# Altium schematic symbol library BRT_Components.SchLib: 270 symbols (part 1 of 3)
Pins are listed as number, name and electrical type; pins without a type are passive.

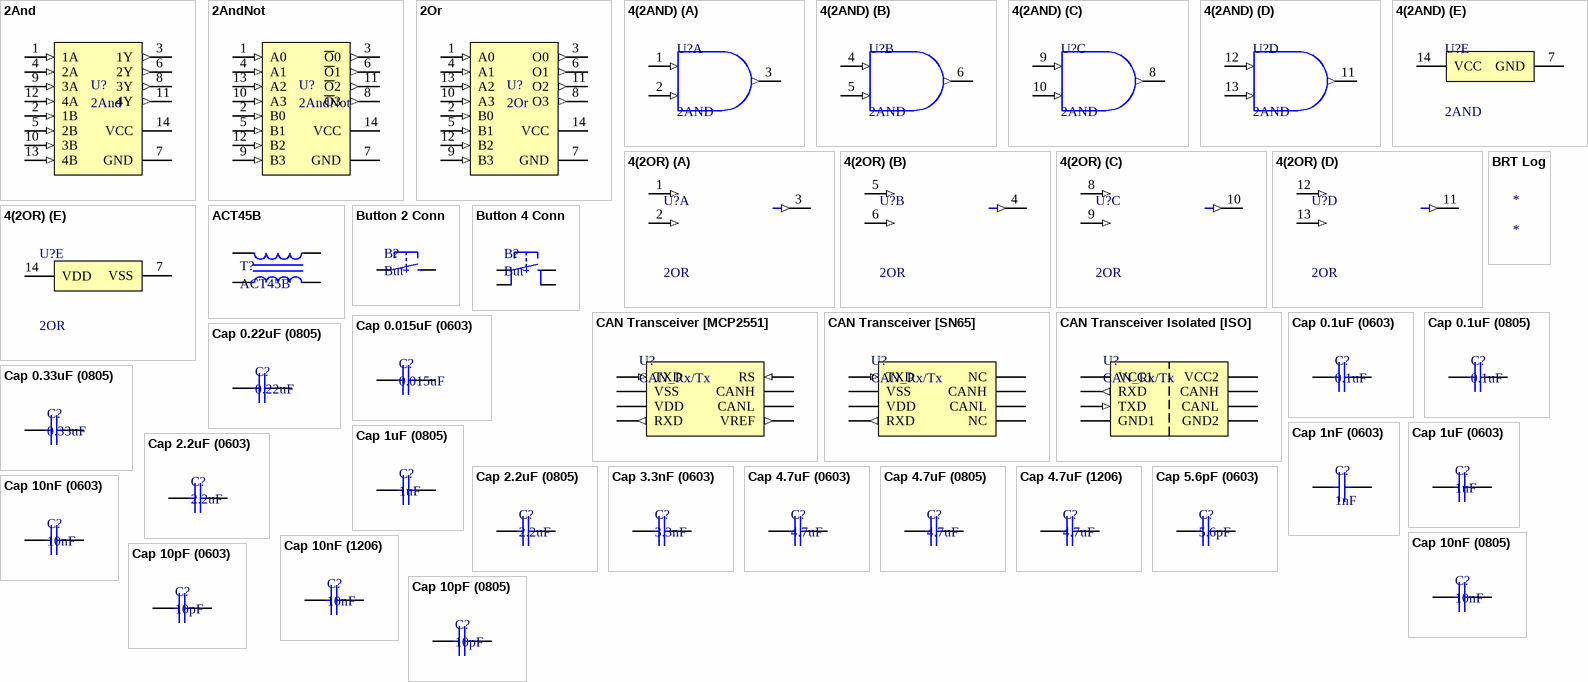
[diagram p0: symbols 2And to Cap 10pF (0805)]

## 2And
designator U?
4 logic elements "2AND"; Part Number: SN74AC08DR; Manufacturer: Texas Instruments; ComponentLink1Description: DataSheet; ComponentLink1URL: https://static.chipdip.ru/lib/551/DOC001551527.pdf; ComponentLink2Description: Chip&Dip; ComponentLink2URL: https://www.chipdip.ru/product/sn74ac08dr; Type: IC
footprint SOIC-14
pins: 1 1A (in), 2 1B (in), 3 1Y (out), 4 2A (in), 5 2B (in), 6 2Y (out), 7 GND (power), 8 3Y (out), 9 3A (in), 10 3B (in), 11 4Y (out), 12 4A (in), 13 4B (in), 14 VCC (power)

## 2AndNot
designator U?
4 logic elements "2NAND"; Part Number: 74AC00SC; Manufacturer: Fairchild Semiconductor; ComponentLink1Description: DataSheet; ComponentLink1URL: https://static.chipdip.ru/lib/551/DOC001551527.pdf; ComponentLink2Description: ChipDip; ComponentLink2URL: https://www.chipdip.ru/product/74ac00sc; Type: IC
footprint SOIC-14
pins: 1 A0 (in), 2 B0 (in), 3 ~{O}0 (out), 4 A1 (in), 5 B1 (in), 6 ~{O}1 (out), 7 GND (power), 8 ~{O}3 (out), 9 B3 (in), 10 A3 (in), 11 ~{O}2 (out), 12 B2 (in), 13 A2 (in), 14 VCC (power)

## 2Or
designator U?
4 logic elements "2OR"; Part Number: 74AC32SC; Manufacturer: Fairchild Semiconductor; ComponentLink1Description: DataSheet; ComponentLink1URL: http://www.farnell.com/datasheets/2287666.pdf; ComponentLink2Description: Chip&Dip; ComponentLink2URL: https://www.chipdip.ru/product/74ac32sc; Type: IC
footprint SOIC-14
pins: 1 A0 (in), 2 B0 (in), 3 O0 (out), 4 A1 (in), 5 B1 (in), 6 O1 (out), 7 GND, 8 O3 (out), 9 B3 (in), 10 A3 (in), 11 O2 (out), 12 B2 (in), 13 A2 (in), 14 VCC

## 4(2AND)
designator U?, comment 2AND
Quadruple 2-Input Positive-AND Gates, N0014A, TUBE; ComponentLink1Description: CHIPDIP; ComponentLink1URL: https://www.chipdip.ru/product/sn74als08n; ComponentLink2Description: Datasheet; ComponentLink2URL: https://static.chipdip.ru/lib/205/DOC000205515.pdf
footprint Dip14
part A pins: 1 1A (in), 2 1B (in), 3 1Y (out)
part B pins: 4 2A (in), 5 2B (in), 6 2Y (out)
part C pins: 8 3Y (out), 9 3A (in), 10 3B (in)
part D pins: 11 4Y (out), 12 4A (in), 13 4B (in)
part E pins: 7 GND (power), 14 VCC (power)

## 4(2OR)
designator U?, comment 2OR
CMOS Quad 2-Input OR Gate, N0014A, TUBE; ComponentLink1Description: CHIPDIP; ComponentLink1URL: https://www.chipdip.ru/product/cd4071be; ComponentLink2Description: DataSheet; ComponentLink2URL: https://static.chipdip.ru/lib/255/DOC000255480.pdf
footprint Dip14
part A pins: 1 A (in), 2 B (in), 3 J (out)
part B pins: 4 K (out), 5 C (in), 6 D (in)
part C pins: 8 E (in), 9 F (in), 10 L (out)
part D pins: 11 M (out), 12 G (in), 13 H (in)
part E pins: 7 VSS (power), 14 VDD (power)

## ACT45B
designator T?
Common mode filters / Automotive signal line (for power train/safety); Manufacturer: EMC Components; Part Number: ACT45B-510-2P-TL003; Type: Inductor; ComponentLink1Description: DataSheet; ComponentLink1URL: https://product.tdk.com/info/en/catalog/datasheets/cmf_automotive_signal_act45b_en.pdf
footprint ACT45B
pins: 1, 2, 3, 4

## BRT Log
designator *
footprint BRT_Log

## Button 2 Conn
designator B?, comment But
Button 2 Conn SMD; Part Number: L-KLS7-TS3608-5.0-180; Manufacturer: KLS electronic co ltd; Type: Button; ComponentLink1Description: Chip&Dip; ComponentLink1URL: https://www.chipdip.ru/product/kls7-ts3608-5.0-180-td-02xa
footprint BUTTON 4x3
pins: 1, 2

## Button 4 Conn
designator B?, comment But
Button 4 Conn SMD; Manufacturer: TE Connectivity; Part Number: 1571563-9; Type: Button; ComponentLink1Description: Chip&Dip; ComponentLink1URL: https://www.chipdip.ru/product/tyco-1571563-9-fsm8jsmatr
footprint Button 6x6
pins: 1, 2, 3, 4

## CAN Transceiver [MCP2551]
designator U?, comment CAN_Rx/Tx
High-speed  CAN,  fault-tolerantdevice  that  serves  as  the  interface  between  a  CANprotocol controller and the physical bus.; Part Number: MCP2551-I/SN; Manufacturer: Microchip; ComponentLink1Description: DataSheet; ComponentLink1URL: https://static.chipdip.ru/lib/204/DOC000204457.pdf; ComponentLink2Description: Chip&Dip; ComponentLink2URL: https://www.chipdip.ru/product/mcp2551-i-sn; Type: IC
footprint SOIC-8
pins: 1 TXD (in), 2 VSS (power), 3 VDD (power), 4 RXD (out), 5 VREF (out), 6 CANL (oc), 7 CANH (oc), 8 RS (in)

## CAN Transceiver [SN65]
designator U?, comment CAN_Rx/Tx
3.3V CAN Transceiver; Part Number: SN65HVD232D; Manufacturer: Texas Instruments; ComponentLink1Description: DataSheet; ComponentLink1URL: https://static.chipdip.ru/lib/204/DOC000204848.pdf; ComponentLink2Description: Chip&Dip; ComponentLink2URL: https://www.chipdip.ru/product/sn65hvd232d-2; Type: IC
footprint SOIC-8
pins: 1 TXD (in), 2 VSS (power), 3 VDD (power), 4 RXD (out), 5 NC, 6 CANL (oc), 7 CANH (oc), 8 NC

## CAN Transceiver Isolated [ISO]
designator U?, comment CAN_Rx/Tx
Galvanically isolated CAN transceiver that meets the specifications of  the ISO11898-2 standard; Part Number: ISO1050DUB; Manufacturer: Texas Instruments; ComponentLink1Description: DataSheet; ComponentLink1URL: https://static.chipdip.ru/lib/143/DOC004143969.pdf; ComponentLink2Description: Chip&Dip; ComponentLink2URL: https://www.chipdip.ru/product/iso1050dub; Type: IC
footprint dub-8
pins: 1 VCC1 (power), 2 RXD (out), 3 TXD (in), 4 GND1 (power), 5 GND2 (power), 6 CANL (oc), 7 CANH (oc), 8 VCC2 (power)

## Cap 0.1uF (0603)
designator C?, comment 0.1uF
0.1uF X7R 16V 10% 0603; Manufacturer: Murata Manufacturing; Part Number: GRM188R71C104KA01D; Type: Capacitor; ComponentLink1Description: Chip&Dip; ComponentLink1URL: https://www.chipdip.ru/product/grm188r71c104ka01d
footprint 0603 Capicator
pins: 1, 2

## Cap 0.1uF (0805)
designator C?, comment 0.1uF
0.1uF X7R 25V 10% 0805; Manufacturer: Murata Manufacturing; Part Number: GRM21BR71E104KA01L; Type: Capacitor; ComponentLink1Description: Chip&Dip; ComponentLink1URL: https://www.chipdip.ru/product/grm21br71e104ka01l
footprint 0805 Capicator
pins: 1, 2

## Cap 0.015uF (0603)
designator C?, comment 0.015uF
0.015uF X7R 50V 10% 0603; Manufacturer: Taiwan; Part Number: MLCC0.015uFX7R50V10%0603; Type: Capacitor; ComponentLink1Description: Chip&Dip; ComponentLink1URL: https://www.chipdip.ru/product0/895412441
footprint 0603 Capicator
pins: 1, 2

## Cap 0.22uF (0805)
designator C?, comment 0.22uF
0.22uF X7R 50V 10% 0805; Manufacturer: Murata Manufacturing; Part Number: GRM21BR71H224KA01L; Type: Capacitor; ComponentLink1Description: Chip&Dip; ComponentLink1URL: https://www.chipdip.ru/product/grm21br71h224k
footprint 0805 Capicator
pins: 1, 2

## Cap 0.33uF (0805)
designator C?, comment 0.33uF
0.33uF X7R 25V 10% 0805; Manufacturer: Murata Manufacturing; Part Number: GRM21BR71E334KA01L; Type: Capacitor; ComponentLink1Description: Chip&Dip; ComponentLink1URL: https://www.chipdip.ru/product/grm21br71e334k
footprint 0805 Capicator
pins: 1, 2

## Cap 1nF (0603)
designator C?, comment 1nF
X7R 1nF 100V 10% 0603; Manufacturer: Murata Manufacturing; Part Number: GRM188R72A102KA01D; Type: Capacitor; ComponentLink1Description: Chip&Dip; ComponentLink1URL: https://www.chipdip.ru/product/grm188r72a102ka01d
footprint 0603 Capicator
pins: 1, 2

## Cap 1uF (0603)
designator C?, comment 1uF
1uF X5R 25V 10% 0603; Manufacturer: Murata Manufacturing; Part Number: GRM188R61E105KAADD; Type: Capacitor; ComponentLink1Description: Chip&Dip; ComponentLink1URL: https://www.chipdip.ru/product/grm188r61e105k
footprint 0603 Capicator
pins: 1, 2

## Cap 1uF (0805)
designator C?, comment 1uF
1uF X7R 10% 16V 0805; Manufacturer: Murata Manufacturing; Part Number: GRM21BR71C105KA01K; Type: Capacitor; ComponentLink1Description: Chip&Dip; ComponentLink1URL: https://www.chipdip.ru/product/grm21br71c105k
footprint 0805 Capicator
pins: 1, 2

## Cap 2.2uF (0603)
designator C?, comment 2.2uF
2.2uF X5R 10V 10% 0603; Manufacturer: Murata Manufacturing; Part Number: GRM188R61A225KE34D; Type: Capacitor; ComponentLink1Description: Chip&Dip; ComponentLink1URL: https://www.chipdip.ru/product/grm188r61a225k
footprint 0603 Capicator
pins: 1, 2

## Cap 2.2uF (0805)
designator C?, comment 2.2uF
2.2uF X7R 25V 0805; Manufacturer: Murata Manufacturing; Part Number: GRM21BR71E225KA73L; Type: Capacitor; ComponentLink1Description: Chip&Dip; ComponentLink1URL: https://www.chipdip.ru/product/grm21br71e225k
footprint 0805 Capicator
pins: 1, 2

## Cap 3.3nF (0603)
designator C?, comment 3.3nF
X7R 3.3nF 100V 10% 0603; Manufacturer: Murata Manufacturing; Part Number: GRM188R72A332KA01D; Type: Capacitor; ComponentLink1Description: Chip&Dip; ComponentLink1URL: https://www.chipdip.ru/product/grm188r72a332ka01d
footprint 0603 Capicator
pins: 1, 2

## Cap 4.7uF (0603)
designator C?, comment 4.7uF
4.7uF X5R 25V 10% 0603; Manufacturer: Murata Manufacturing; Part Number: GRM188R61E475KE11D; Type: Capacitor; ComponentLink1Description: Chip&Dip; ComponentLink1URL: https://www.chipdip.ru/product0/9000348448
footprint 0603 Capicator
pins: 1, 2

## Cap 4.7uF (0805)
designator C?, comment 4.7uF
4.7uF X5R 10% 25V 0805; Manufacturer: Murata Manufacturing; Part Number: GRM21BR61E475KA12L; Type: Capacitor; ComponentLink1Description: Chip&Dip; ComponentLink1URL: https://www.chipdip.ru/product/grm21br61e475ka12l
footprint 0805 Capicator
pins: 1, 2

## Cap 4.7uF (1206)
designator C?, comment 4.7uF
4.7uF X7R 10% 50V 1206; Manufacturer: Murata Manufacturing; Part Number: GRM31CR71H475KA12L; Type: Capacitor; ComponentLink1Description: Chip&Dip; ComponentLink1URL: https://www.chipdip.ru/product/grm31cr71h475ka12l
footprint 1206 Capacitor
pins: 1, 2

## Cap 5.6pF (0603)
designator C?, comment 5.6pF
10pF NP0 50V 5% 0603; Manufacturer: Murata Manufacturing; Part Number: GRM1885C1H5R6CZ01D; Type: Capacitor; ComponentLink1Description: Chip&Dip; ComponentLink1URL: https://www.chipdip.ru/product/grm1885c1h5r6c
footprint 0603 Capicator
pins: 1, 2

## Cap 10nF (0603)
designator C?, comment 10nF
X7R 10nF 100V 10% 0603; Manufacturer: Murata Manufacturing; Part Number: GRM188R72A103KA01D; Type: Capacitor; ComponentLink1Description: Chip&Dip; ComponentLink1URL: https://www.chipdip.ru/product/grm188r72a103ka01d
footprint 0603 Capicator
pins: 1, 2

## Cap 10nF (0805)
designator C?, comment 10nF
0805 X7R 10nF 100V 10%; Manufacturer: Murata Manufacturing; Part Number: GRM21BR72A103KA01L; Type: Capacitor; ComponentLink1Description: Chip&Dip; ComponentLink1URL: https://www.chipdip.ru/product/grm21br72a103ka01l
footprint 0805 Capicator
pins: 1, 2

## Cap 10nF (1206)
designator C?, comment 10nF
10nF X7R 10% 50V 1206; Manufacturer: Murata Manufacturing; Part Number: GRM319R71H103KA01D; Type: Capacitor; ComponentLink1Description: Chip&Dip; ComponentLink1URL: https://www.chipdip.ru/product/grm319r71h103k
footprint 1206 Capacitor
pins: 1, 2

## Cap 10pF (0603)
designator C?, comment 10pF
10pF NP0 50V 5% 0603; Manufacturer: Murata Manufacturing; Part Number: GRM1885C1H100JA01D; Type: Capacitor; ComponentLink1Description: Chip&Dip; ComponentLink1URL: https://www.chipdip.ru/product/grm1885c1h100j
footprint 0603 Capicator
pins: 1, 2

## Cap 10pF (0805)
designator C?, comment 10pF
10pF NP0 50V 5% 0805; Manufacturer: Murata Manufacturing; Part Number: GRM2165C1H100JZ01D; Type: Capacitor; ComponentLink1Description: Chip&Dip; ComponentLink1URL: https://www.chipdip.ru/product/grm2165c1h100j
footprint 0805 Capicator
pins: 1, 2

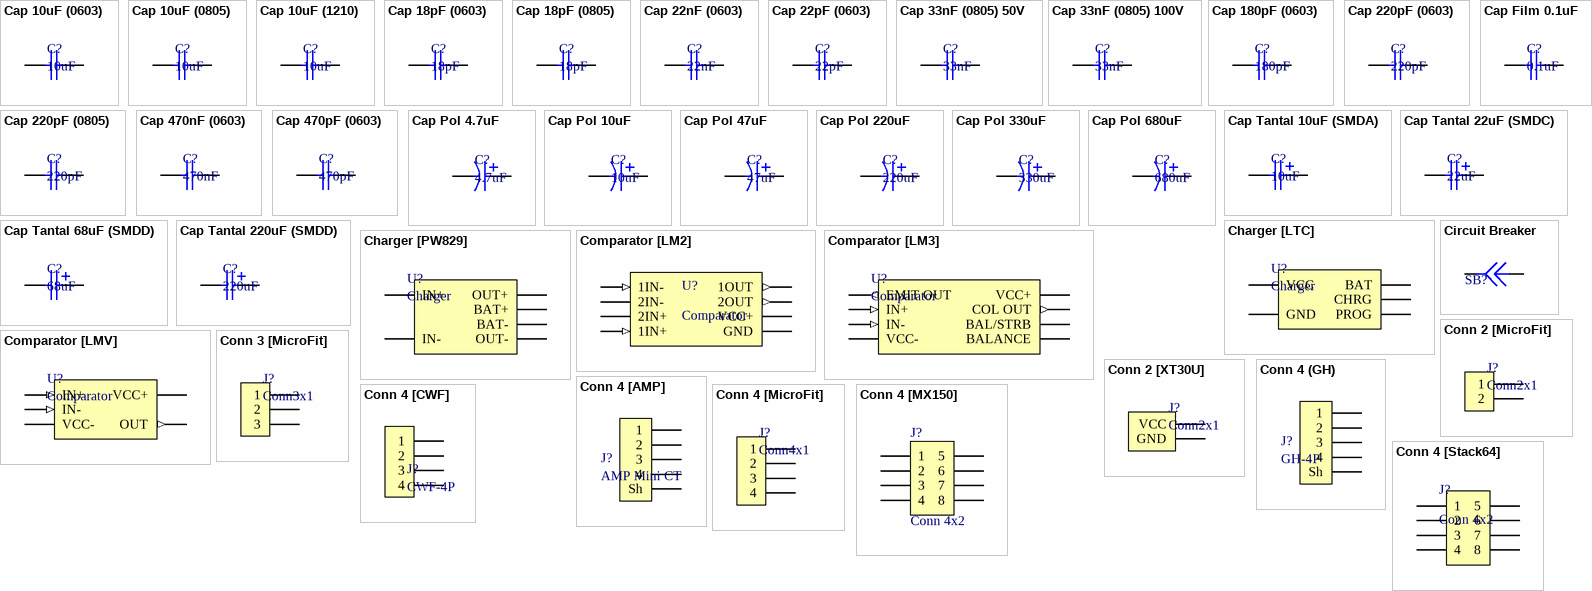
[diagram p1: symbols Cap 10uF (0603) to Conn 4 [Stack64]]

## Cap 10uF (0603)
designator C?, comment 10uF
10uF X5R 25V 20% 0603; Manufacturer: Murata Manufacturing; Part Number: GRM188R61E106M; Type: Capacitor; ComponentLink1Description: Chip&Dip; ComponentLink1URL: https://www.chipdip.ru/product/grm188r61e106m
footprint 0603 Capicator
pins: 1, 2

## Cap 10uF (0805)
designator C?, comment 10uF
10uF X5R 10% 16V 0805; Manufacturer: Murata Manufacturing; Part Number: GRM21BR61C106KE15L; Type: Capacitor; ComponentLink1Description: Chip&Dip; ComponentLink1URL: https://www.chipdip.ru/product/grm21br61c106ke15l
footprint 0805 Capicator
pins: 1, 2

## Cap 10uF (1210)
designator C?, comment 10uF
10uF X7R 10% 50V 1210; Manufacturer: Murata Manufacturing; Part Number: GRM32ER71H106KA12; Type: Capacitor; ComponentLink1Description: Chip&Dip; ComponentLink1URL: https://www.chipdip.ru/product/grm32er71h106k
footprint 1210 CAPACITOR
pins: 1, 2

## Cap 18pF (0603)
designator C?, comment 18pF
18pF NP0 50V 5% 0603; Manufacturer: Murata Manufacturing; Part Number: GRM1885C1H180JA01D; Type: Capacitor; ComponentLink1Description: Chip&Dip; ComponentLink1URL: https://www.chipdip.ru/product/grm1885c1h180j
footprint 0603 Capicator
pins: 1, 2

## Cap 18pF (0805)
designator C?, comment 18pF
18pF NP0 50V 5% 0805; Manufacturer: Murata Manufacturing; Part Number: GRM2165C1H180JD01D; Type: Capacitor; ComponentLink1Description: Chip&Dip; ComponentLink1URL: https://www.chipdip.ru/product/grm2165c1h180j
footprint 0805 Capicator
pins: 1, 2

## Cap 22nF (0603)
designator C?, comment 22nF
22nF X7R 50V 10% 0603; Manufacturer: Murata Manufacturing; Part Number: GRM188R71H223KA01D; Type: Capacitor; ComponentLink1Description: Chip&Dip; ComponentLink1URL: https://www.chipdip.ru/product/grm188r71h223k
footprint 0603 Capicator
pins: 1, 2

## Cap 22pF (0603)
designator C?, comment 22pF
22pF NP0 50V 5% 0603; Manufacturer: Taiwan; Part Number: MLCC22pFNPO50V5%0603; Type: Capacitor; ComponentLink1Description: Chip&Dip; ComponentLink1URL: https://www.chipdip.ru/product0/472852716
footprint 0603 Capicator
pins: 1, 2

## Cap 33nF (0805) 50V
designator C?, comment 33nF
0805 C0G 3.3нФ 50В 5%; Part Number: GRM21BR72A333KA01L; Manufacturer: Murata Manufacturing; Type: Capacitor; ComponentLink1Description: DataSheet; ComponentLink1URL: https://static.chipdip.ru/lib/250/DOC000250694.pdf; ComponentLink2Description: Chip&Dip; ComponentLink2URL: https://www.chipdip.ru/product/grm2165c1h332ja01d
footprint 0805 Capicator
pins: 1, 2

## Cap 33nF (0805) 100V
designator C?, comment 33nF
0805 X7R 33нФ 100В 10%; Part Number: GRM2165C1H332JA01D; Manufacturer: Murata Manufacturing; Type: Capacitor; ComponentLink1Description: DataSheet; ComponentLink1URL: https://static.chipdip.ru/lib/250/DOC000250694.pdf; ComponentLink2Description: Chip&Dip; ComponentLink2URL: https://www.chipdip.ru/product/grm21br72a333ka01l
footprint 0805 Capicator
pins: 1, 2

## Cap 180pF (0603)
designator C?, comment 180pF
180pF NP0 50V 5% 0603; Manufacturer: Murata Manufacturing; Part Number: GRM1885C1H181JA01D; Type: Capacitor; ComponentLink1Description: Chip&Dip; ComponentLink1URL: https://www.chipdip.ru/product/grm1885c1h181j
footprint 0603 Capicator
pins: 1, 2

## Cap 220pF (0603)
designator C?, comment 220pF
220pF NP0 50V 5% 0603; Manufacturer: Murata Manufacturing; Part Number: GRM1885C1H221J; Type: Capacitor; ComponentLink1Description: Chip&Dip; ComponentLink1URL: https://www.chipdip.ru/product/grm1885c1h221j
footprint 0603 Capicator
pins: 1, 2

## Cap 220pF (0805)
designator C?, comment 220pF
220pF NPO 5% 50V 0805; Manufacturer: Murata Manufacturing; Part Number: GRM2165C1H221JA01D; Type: Capacitor; ComponentLink1Description: Chip&Dip; ComponentLink1URL: https://www.chipdip.ru/product/grm2165c1h221j
footprint 0805 Capicator
pins: 1, 2

## Cap 470nF (0603)
designator C?, comment 470nF
470nF X7R 25V 10% 0603; Manufacturer: Murata Manufacturing; Part Number: GRM188R71E474KA12D; Type: Capacitor; ComponentLink1Description: Chip&Dip; ComponentLink1URL: https://www.chipdip.ru/product/grm188r71e474ka12d
footprint 0603 Capicator
pins: 1, 2

## Cap 470pF (0603)
designator C?, comment 470pF
470pF NP0 50V 5% 0603; Manufacturer: Taiwan; Part Number: MLCC470pFNPO50V5%0603; Type: Capacitor; ComponentLink1Description: Chip&Dip; ComponentLink1URL: https://www.chipdip.ru/product0/515359566
footprint 0603 Capicator
pins: 1, 2

## Cap Film 0.1uF
designator C?, comment 0.1uF
0.1uF 1000V 5%; Manufacturer: Epcos; Part Number: B32652A0104J000; Type: Capacitor; ComponentLink1Description: Chip&Dip; ComponentLink1URL: https://www.chipdip.ru/product/b32652a0104j000; ComponentLink2Description: DataSheet; ComponentLink2URL: https://static.chipdip.ru/lib/423/DOC004423752.pdf
footprint CAP Film 9x18 (DS1069-6 MR)
pins: 1, 2

## Cap Pol 4.7uF
designator C?, comment 4.7uF
ECAP SMD,  35V, 105°C; Part Number: B41121A7475M000; Manufacturer: Epcos; Type: Capacitor; ComponentLink1Description: Chip&Dip; ComponentLink1URL: https://www.chipdip.ru/product/b41121a7475m000
footprint Bar Cap 4x5.4
pins: 1, 2

## Cap Pol 10uF
designator C?, comment 10uF
ECAP SMD,  35V; Part Number: ECAPSMD10uF/35V; Manufacturer: China; Type: Capacitor; ComponentLink1Description: Chip&Dip; ComponentLink1URL: https://www.chipdip.ru/product0/884555856
footprint Bar Cap 5x5.4
pins: 1, 2

## Cap Pol 47uF
designator C?, comment 47uF
ECAP SMD,  25V, 105°C, 20%; Part Number: JCK1E470M063054; Manufacturer: JB; Type: Capacitor; ComponentLink1Description: Chip&Dip; ComponentLink1URL: https://www.chipdip.ru/product0/9000565730
footprint Bar Cap 6.3x7.7
pins: 1, 2

## Cap Pol 220uF
designator C?, comment 220uF
ECAP SMD,  10V, 105°C, 20%; Part Number: JCK1A221M063077; Manufacturer: JB; Type: Capacitor; ComponentLink1Description: Chip&Dip; ComponentLink1URL: https://www.chipdip.ru/product0/9000565740
footprint Bar Cap 6.3x7.7
pins: 1, 2

## Cap Pol 330uF
designator C?, comment 330uF
ECAP SMD,  16V, 105°C, 20%; Part Number: JCK1C331M080105; Manufacturer: JB; Type: Capacitor; ComponentLink1Description: Chip&Dip; ComponentLink1URL: https://www.chipdip.ru/product0/9000565746
footprint Bar Cap 8x10.5
pins: 1, 2

## Cap Pol 680uF
designator C?, comment 680uF
ECAP, 16V, 105°C, 20%, 8x16mm; Part Number: JRB1C681M03500800160000B; Manufacturer: JB; Type: Capacitor; ComponentLink1Description: Chip&Dip; ComponentLink1URL: https://www.chipdip.ru/product0/9000565740
footprint ECAP 8x16mm
pins: 1, 2

## Cap Tantal 10uF (SMDA)
designator C?, comment 10uF
TECAP, 10uF, 16V, case A, 10%; Part Number: 373033076; Manufacturer: China; Type: Capacitor; ComponentLink1Description: Chip&Dip; ComponentLink1URL: https://www.chipdip.ru/product0/373033076
footprint TANTAL_A_CASE
pins: 1, 2

## Cap Tantal 22uF (SMDC)
designator C?, comment 22uF
TECAP, 22uF, 16V, case C, 10%; Part Number: TECAP22/16VC10; Manufacturer: China; Type: Capacitor; ComponentLink1Description: Chip&Dip; ComponentLink1URL: https://www.chipdip.ru/product0/527359843
footprint TANTAL_C_CASE
pins: 1, 2

## Cap Tantal 68uF (SMDD)
designator C?, comment 68uF
TECAP, 68uF, 16V, case D, 10%; Part Number: TECAP68/16VD10; Manufacturer: China; Type: Capacitor; ComponentLink1Description: Chip&Dip; ComponentLink1URL: https://www.chipdip.ru/product0/979125339
footprint TANTAL_D_CASE
pins: 1, 2

## Cap Tantal 220uF (SMDD)
designator C?, comment 220uF
TECAP, 220uF, 10V, case D, 10%; Part Number: TECAP220/10VD10; Manufacturer: China; Type: Capacitor; ComponentLink1Description: Chip&Dip; ComponentLink1URL: https://www.chipdip.ru/product0/544389172
footprint TANTAL_D_CASE
pins: 1, 2

## Charger [LTC]
designator U?, comment Charger
The LTC®4054 is a complete constant-current/constant-voltage linear charger for single cell lithium-ion batteries.Its ThinSOT package and low external component countmake the LTC4054 ideally suited for portable applications.Furthermore, the LTC4054 is specifically designed to workwithin USB power specifications; Part Number: LTC4054ES5-4.2#PBF; Manufacturer: Linear Technology; ComponentLink2Description: Chip&Dip; ComponentLink2URL: https://www.chipdip.ru/product/ltc4054es5-4.2; Type: IC; ComponentLink3Description: DataSheet; ComponentLink3URL: https://static.chipdip.ru/lib/760/DOC000760847.pdf
footprint SOT-23-5
pins: 1 CHRG, 2 GND (power), 3 BAT (power), 4 VCC (power), 5 PROG

## Charger [PW829]
designator U?, comment Charger
Charger for Li-Ion; Part Number: PW829; Manufacturer: Master Kit; ComponentLink2Description: Chip&Dip; ComponentLink2URL: https://www.chipdip.ru/product0/8002091037; Type: IC
footprint PW829
pins: B+ BAT+ (power), B- BAT- (power), IN+ (power), IN- (power), OUT+ (power), OUT- (power)

## Circuit Breaker
designator SB?  (value not drawn)
footprint SB 0603 (Jumper)
pins: 1, 2

## Comparator [LM2]
designator U?, comment Comparator
These devices consist of two independent, high-gain designed to operate from a single supply or split (26 V for LM2904) supply over a wide range of voltages.; Manufacturer: Texas Instruments; Part Number: LM2904D; ComponentLink1Description: ChipDip; ComponentLink1URL: https://www.chipdip.ru/product/lm2904d-3; ComponentLink2Description: Datasheet; ComponentLink2URL: https://static.chipdip.ru/lib/551/DOC001551706.pdf; Type: IC
footprint SOIC-8
pins: 1 1OUT (out), 2 1IN- (in), 3 1IN+ (in), 4 GND (power), 5 2IN+ (oc), 6 2IN- (oc), 7 2OUT (out), 8 VCC+ (power)

## Comparator [LM3]
designator U?, comment Comparator
Differential comparator with strobes; Part Number: LM311DR; Manufacturer: Texas Instruments; ComponentLink1Description: DataSheet; ComponentLink1URL: https://static.chipdip.ru/lib/222/DOC000222396.pdf; ComponentLink2Description: Chip&Dip; ComponentLink2URL: https://www.chipdip.ru/product/lm311d; Type: IC
footprint SOIC-8
pins: 1 EMIT OUT (out), 2 IN+ (in), 3 IN- (in), 4 VCC- (power), 5 BALANCE (oc), 6 BAL/STRB (oc), 7 COL OUT (out), 8 VCC+ (power)

## Comparator [LMV]
designator U?, comment Comparator
LMV7219 7-ns 2.7-V to 5-V Comparator with Rail-to-Rail Output; Part Number: LMV7219M5X/NOPB; Manufacturer: Texas Instruments; ComponentLink1Description: DataSheet; ComponentLink1URL: http://www.ti.com/lit/ds/symlink/lmv7219.pdf; ComponentLink2Description: Mouser; ComponentLink2URL: https://ru.mouser.com/ProductDetail/Texas-Instruments/LMV7219M5X-NOPB?qs=sGAEpiMZZMuayl%2FEk2kXcbEcxwmoPguctVQUIBgrLJY%3D; Type: IC
footprint SOT-23-5
pins: 1 OUT (out), 2 VCC- (power), 3 IN+ (in), 4 IN- (in), 5 VCC+ (power)

## Conn 2 [MicroFit]
designator J?, comment Conn2x1
Micro-Fit 3.0 Right-Angle Header, 3.00mm Pitch, Single Row, 2 Circuits, with Snap-in Plastic Peg PCB Lock, Tin, Glow-Wire Capable, Black; Part Number: 436500200; Manufacturer: Molex; ComponentLink1Description: Molex; ComponentLink1URL: https://www.molex.com/molex/products/part-detail/pcb_headers/0436500200; Type: Connector
footprint MolexMicroFit 2x1
pins: 1, 2

## Conn 2 [XT30U]
designator J?, comment Conn2x1
Part Number: XT30U; Manufacturer: Amass; ComponentLink1Description: AliExpress; ComponentLink1URL: https://ru.aliexpress.com/item/4000070113352.html?spm=a2g0o.productlist.0.0.39dd34bfyYuspa&algo_pvid=4d7d83f5-6270-4220-b100-9b5f13b0846d&algo_expid=4d7d83f5-6270-4220-b100-9b5f13b0846d-3&btsid=c67bc929-e3be-4af3-9fd9-25ac13ce4818&ws_ab_test=searchweb0_0,searchweb201602_,searchweb201603_55; Type: Connector
footprint HEADER 2 XT30U
pins: 1 VCC, 2 GND

## Conn 3 [MicroFit]
designator J?, comment Conn3x1
Micro-Fit 3.0 Right-Angle Header, 3.00mm Pitch, Single Row, 3 Circuits, with Snap-in Plastic Peg PCB Lock, Tin, Glow-Wire Capable, Black; Part Number: 436500300; Manufacturer: Molex; ComponentLink1Description: Molex; ComponentLink1URL: https://www.molex.com/molex/products/part-detail/pcb_headers/0436500300; Type: Connector
footprint MolexMicroFit 3x1
pins: 1, 2, 3

## Conn 4 (GH)
designator J?, comment GH-4P
Connector Receptacle 4 Position 0.049" (1.25mm) Tin Surface Mount, Right Angle; Part Number: SM04B-GHS-TB; Manufacturer: JST Corporation; Type: Connector; ComponentLink1Description: Chip&Dip; ComponentLink1URL: https://www.chipdip.ru/product1/8002655893
footprint JST_GH-4P-RA
pins: 1, 2, 3, 4, A Sh

## Conn 4 [AMP]
designator J?, comment AMP Mini CT
PCB Mount Header, Right Angle,  Wire-to-Board; Part Number: 292227-4; Manufacturer: TE Connectivity; Type: Connector; ComponentLink1Description: TE Connectivity; ComponentLink1URL: https://www.te.com/usa-en/product-292227-4.html; ComponentLink2Description: Mouser; ComponentLink2URL: https://ru.mouser.com/ProductDetail/TE-Connectivity/5-292227-4?qs=sGAEpiMZZMvlX3nhDDO4AKROQBdNP11Lv8TEYXLdyMk%3D
footprint AMP Mini CT
pins: 1, 2, 3, 4, A Sh

## Conn 4 [CWF]
designator J?, comment CWF-4P
Right-Angle; Part Number: DS1069-4MRW6XB; Manufacturer: Ningbo connfly electronic (Zhenqin); Type: Connector; ComponentLink1Description: Chip&Dip; ComponentLink1URL: https://www.chipdip.ru/product/cwf-4r
footprint Conn4x1 (DS1069-6 MR)
pins: 1, 2, 3, 4

## Conn 4 [MicroFit]
designator J?, comment Conn4x1
Micro-Fit 3.0 Right-Angle Header, 3.00mm Pitch, Single Row, 4 Circuits, with Snap-in Plastic Peg PCB Lock, Tin, Glow-Wire Capable, Black; Part Number: 436500400; Manufacturer: Molex; ComponentLink1Description: Molex; ComponentLink1URL: https://www.molex.com/molex/products/part-detail/pcb_headers/0436500400; Type: Connector
footprint MolexMicroFit 4x1
pins: 1, 2, 3, 4

## Conn 4 [MX150]
designator J?, comment Conn 4x2
MX150 2x4 Dual Row Right-Angle Header, 8 Circuits, Keying Option A, Black, Solder Tail; Manufacturer: Molex Electronic Solutions; Part Number: 348300801; ComponentLink1Description: Molex; ComponentLink1URL: https://www.molex.com/molex/products/part-detail/pcb_headers/0348300801; Type: Connector
footprint Conn 4x2 (Molex MX150)
pins: 1, 2, 3, 4, 5, 6, 7, 8

## Conn 4 [Stack64]
designator J?, comment Conn 4x2
Stac64 Right-Angle Header Assembly, 8 Circuits, Polarization A, Black, Tray; Manufacturer: Molex Electronic Solutions; Part Number: 346910080; Type: Connector; ComponentLink1Description: Molex; ComponentLink1URL: https://www.molex.com/molex/products/part-detail/pcb_headers/0346910080
footprint Conn 4x2 (Molex)
pins: 1, 2, 3, 4, 5, 6, 7, 8

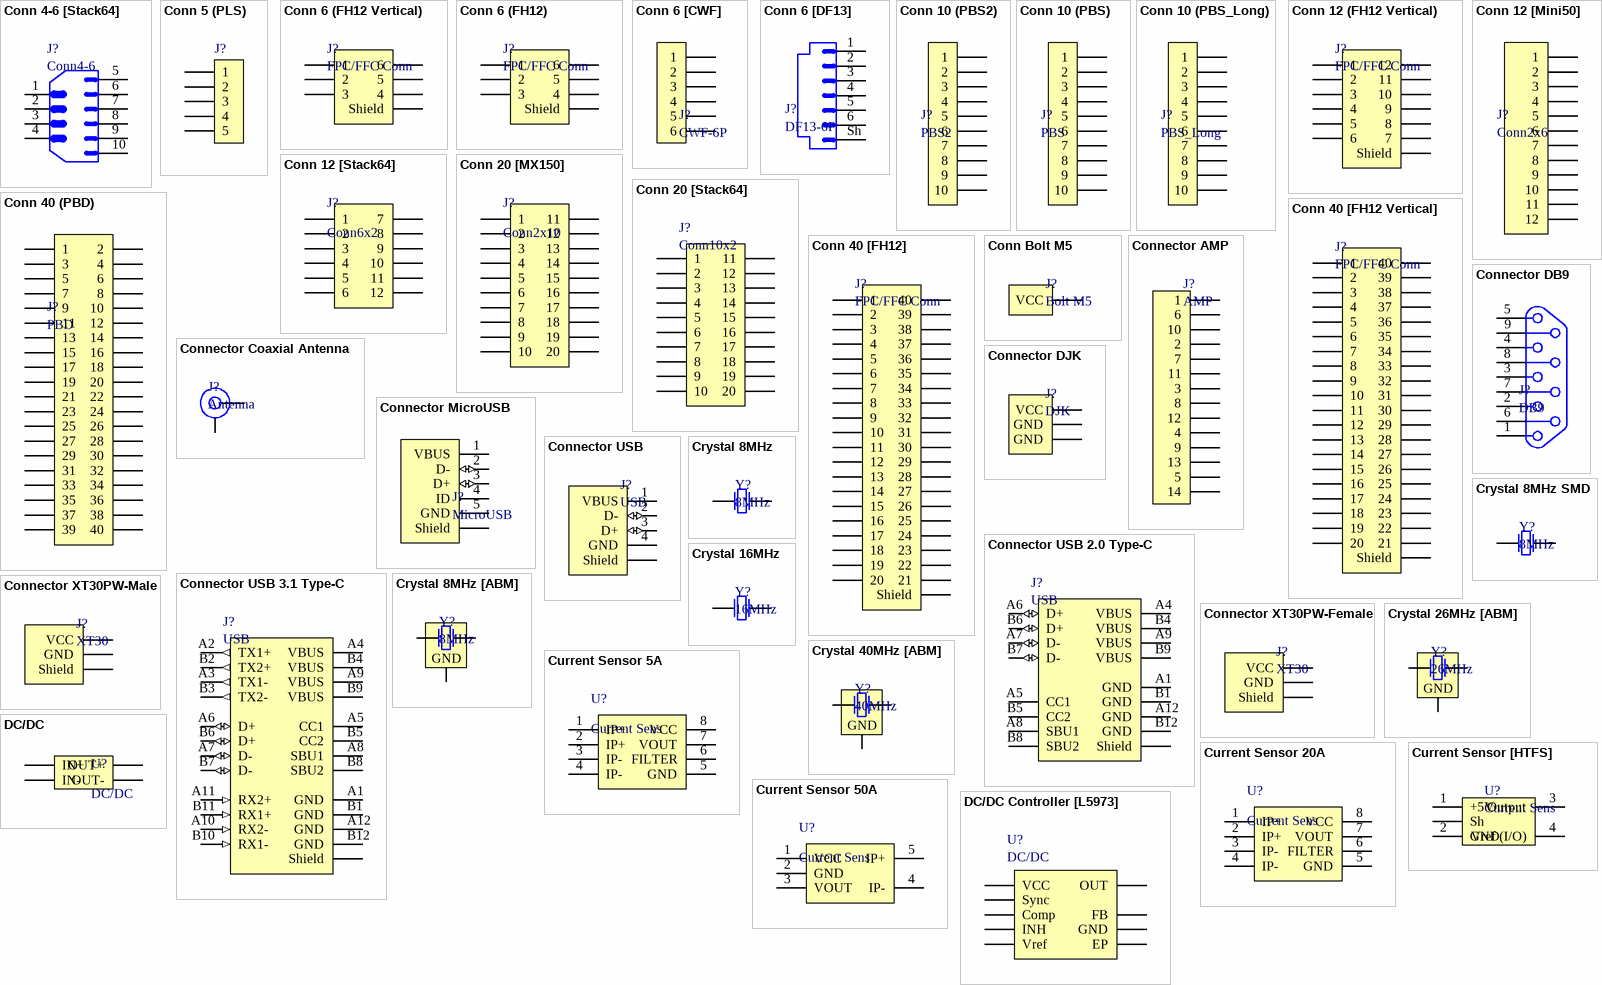
[diagram p2: symbols Conn 4-6 [Stack64] to DC/DC Controller [L5973]]

## Conn 4-6 [Stack64]
designator J?, comment Conn4-6
Stac64 Single Bay Right-Angle Power Header, 10 Circuits: 4x30A, 6x18A, Polarization A, Black, Tray; Manufacturer: Molex Electronic Solutions; Part Number: 346960100; Type: Connector; ComponentLink1Description: Molex; ComponentLink1URL: https://www.molex.com/molex/products/part-detail/pcb_headers/0346960100
footprint Conn4-6 (Molex)
pins: 1, 2, 3, 4, 5, 6, 7, 8, 9, 10

## Conn 5 (PLS)
designator J?
Header, 5-Pin; LatestRevisionDate: 17-Jul-2002; LatestRevisionNote: Re-released for DXP Platform.; Publisher: Altium Limited
footprint PLS 5x1 (Connector; Header; 5 Position)
pins: 1, 2, 3, 4, 5

## Conn 6 (FH12 Vertical)
designator J?, comment FPC/FFC Conn
Connector to touch sensor's trail; Part Number: FH12-6S-0.5SVA(54); Manufacturer: Hirose Electric; Type: Connector; ComponentLink1Description: Mouser; ComponentLink1URL: https://ru.mouser.com/ProductDetail/Hirose-Connector/FH12-6S-05SVA54?qs=%2Fha2pyFaduhYbZFVunKSgIpYMlkzngMoGcACEbztduQ1P2V6tcZCQQ%3D%3D
footprint FH12-6s Vertical
pins: 1, 2, 3, 4, 5, 6, A Shield

## Conn 6 (FH12)
designator J?, comment FPC/FFC Conn
Connector to touch sensor's trail; Part Number: FH12-6S-0.5SH(55); Manufacturer: Hirose Electric; Type: Connector; ComponentLink1Description: Chip&Dip; ComponentLink1URL: https://www.chipdip.ru/product1/8001997921
footprint FH12-6s
pins: 1, 2, 3, 4, 5, 6, A Shield

## Conn 6 [CWF]
designator J?, comment CWF-6P
Right-Angle; Manufacturer: Ningbo connfly electronic (Zhenqin); Part Number: DS1069-6MRW6X-B; Type: Connector; ComponentLink1Description: Chip&Dip; ComponentLink1URL: https://www.chipdip.ru/product/cwf-6r
footprint Conn6x1 (DS1069-6 MR)
pins: 1, 2, 3, 4, 5, 6

## Conn 6 [DF13]
designator J?, comment DF13-6P
[DF13-6P-1.25H]; Manufacturer: Hirose; Part Number: CL0536-0255-2-75; Type: Connector; ComponentLink1Description: Hirose; ComponentLink1URL: https://www.hirose.com/product/p/CL0536-0255-2-75?lang=ru
footprint DF13-6p-1.25H; pin to pad Sh>A
pins: 1, 2, 3, 4, 5, 6, Sh A

## Conn 10 (PBS2)
designator J?, comment PBS2
Female; Part Number: DS1026-01-1*10S8BV; Manufacturer: Ningbo connfly electronic; Type: Connector; ComponentLink1Description: Chip&Dip; ComponentLink1URL: https://www.chipdip.ru/product/pbs2-10
footprint PBS2 10
pins: 1, 2, 3, 4, 5, 6, 7, 8, 9, 10

## Conn 10 (PBS)
designator J?, comment PBS
Female; Part Number: DS1023-1*10S21; Manufacturer: Ningbo connfly electronic; Type: Connector; ComponentLink1Description: Chip&Dip; ComponentLink1URL: https://www.chipdip.ru/product/pbs-10
footprint PBS10
pins: 1, 2, 3, 4, 5, 6, 7, 8, 9, 10

## Conn 10 (PBS_Long)
designator J?, comment PBS_Long
Long Arguino Male & Female Pins; Part Number: DS1023-30-1*10SF11-N-084; Manufacturer: Ningbo connfly electronic; Type: Connector; ComponentLink1Description: Chip&Dip; ComponentLink1URL: https://www.chipdip.ru/product/ds1023-30-1x10-for-arduino
footprint PBS10 Arduino
pins: 1, 2, 3, 4, 5, 6, 7, 8, 9, 10

## Conn 12 (FH12 Vertical)
designator J?, comment FPC/FFC Conn
Connector to trail; Part Number: FH12-12S-0.5SVA(54); Manufacturer: Hirose Electric; Type: Connector; ComponentLink1Description: Mouser; ComponentLink1URL: https://ru.mouser.com/ProductDetail/Hirose-Connector/FH12-12S-05SVA54?qs=%2Fha2pyFadugx2rsdyHDVcXwbI8krQaq6%252BPNTW5YGSdYzC8JBsy5pU75ViyDjvRCP
footprint FH12-12S Vertical
pins: 1, 2, 3, 4, 5, 6, 7, 8, 9, 10, 11, 12, A Shield

## Conn 12 [Mini50]
designator J?, comment Conn2x6
Mini50 Unsealed Right-Angle Header, Dual Row, 12 Circuit, Polarization Option A,Black, Tray; Part Number: 348260124; Manufacturer: Molex; Type: Connector; ComponentLink1Description: Mouser; ComponentLink1URL: https://ru.mouser.com/ProductDetail/Molex/34826-0124?qs=sGAEpiMZZMs7eK6h2EBtKq%2FAicJUTTGjFIo7mj9gX0g%3D
footprint Conn2x6 (Molex)
pins: 1, 2, 3, 4, 5, 6, 7, 8, 9, 10, 11, 12

## Conn 12 [Stack64]
designator J?, comment Conn6x2
Stac64 Right-Angle Header Assembly, 12 Circuits, Polarization A, Black, Tray / Current - Maximum per Contact 10.0A / Voltage - Maximum 500V; ComponentLink1Description: Molex; ComponentLink1URL: https://www.molex.com/molex/products/part-detail/pcb_headers/0346910120; ComponentLink2Description: DataSheet; ComponentLink2URL: https://www.molex.com/webdocs/datasheets/pdf/en-us/0346910120_PCB_HEADERS.pdf
footprint Conn6x2(Molex)
pins: 1, 2, 3, 4, 5, 6, 7, 8, 9, 10, 11, 12

## Conn 20 [MX150]
designator J?, comment Conn2x10
Dual Row Right-Angle Header, 20 Circuits, Keying Option C, Dark Gray, Solder Tail; Part Number: 348302003; Manufacturer: Molex; ComponentLink2Description: Datasheet; ComponentLink2URL: https://www.molex.com/pdm_docs/as/AS-34829-001-001.pdf; Type: Connector
footprint Conn2x10 (Molex)
pins: 1, 2, 3, 4, 5, 6, 7, 8, 9, 10, 11, 12, 13, 14, 15, 16, 17, 18, 19, 20

## Conn 20 [Stack64]
designator J?, comment Conn10x2
Stac64 Right-Angle Header Assembly, 20 Circuits x 10A, Polarization A, Black, Tray; Manufacturer: Molex Electronic Solutions; Part Number: 346910200; Type: Connector; ComponentLink1Description: Molex; ComponentLink1URL: https://www.molex.com/molex/products/part-detail/pcb_headers/0346910200
footprint Conn10x2 (Molex)
pins: 1, 2, 3, 4, 5, 6, 7, 8, 9, 10, 11, 12, 13, 14, 15, 16, 17, 18, 19, 20

## Conn 40 (PBD)
designator J?, comment PBD
Female for PLD; Part Number: DS1023-2*20S21; Manufacturer: Ningbo connfly electronic; Type: Connector; ComponentLink1Description: Chip&Dip; ComponentLink1URL: https://www.chipdip.ru/product/pbd-40
footprint PBD 2x20
pins: 1, 2, 3, 4, 5, 6, 7, 8, 9, 10, 11, 12, 13, 14, 15, 16, 17, 18, 19, 20, 21, 22, 23, 24, 25, 26, 27, 28, 29, 30, 31, 32, 33, 34, 35, 36, 37, 38, 39, 40

## Conn 40 [FH12 Vertical]
designator J?, comment FPC/FFC Conn
Connector to Display's trail.; Part Number: FH12-40S-0.5SVA(54); Manufacturer: Hirose Electric; Type: Connector; ComponentLink1Description: Chip&Dip; ComponentLink1URL: https://www.chipdip.ru/product1/8002082143
footprint FH12-40S Vertical
pins: 1, 2, 3, 4, 5, 6, 7, 8, 9, 10, 11, 12, 13, 14, 15, 16, 17, 18, 19, 20, 21, 22, 23, 24, 25, 26, 27, 28, 29, 30, 31, 32, 33, 34, 35, 36, 37, 38, 39, 40, A Shield

## Conn 40 [FH12]
designator J?, comment FPC/FFC Conn
Connector to Display's trail; Part Number: FH12-40S-0.5SH[55]; Manufacturer: Hirose Electric; Type: Connector; ComponentLink1Description: Chip&Dip; ComponentLink1URL: https://www.chipdip.ru/product1/8001997919
footprint FH12-40S
pins: 1, 2, 3, 4, 5, 6, 7, 8, 9, 10, 11, 12, 13, 14, 15, 16, 17, 18, 19, 20, 21, 22, 23, 24, 25, 26, 27, 28, 29, 30, 31, 32, 33, 34, 35, 36, 37, 38, 39, 40, A Shield

## Conn Bolt M5
designator J?, comment Bolt M5
Bolt M5 high corrent connector; Type: Connetctor; Manufacturer: *; Part Number: *; ComponentLink1Description: Chip&Dip; ComponentLink1URL: *; ComponentLink2Description: Datasheet; ComponentLink2URL: *
footprint Bolt M5
pins: 1 VCC

## Connector AMP
designator J?, comment AMP
AMP Connector; Part Number: 776266-1; Manufacturer: TE Connectivity; Type: Connector
footprint AMP 776266-1
pins: 1, 2, 3, 4, 5, 6, 7, 8, 9, 10, 11, 12, 13, 14

## Connector Coaxial Antenna
designator J?, comment Antenna
Part Number: IPX U. FL; Manufacturer: DIY BOX; ComponentLink1Description: AliExpress; ComponentLink1URL: https://aliexpress.ru/i/32666421757.html; Type: Connector
footprint IPX U. FL
pins: 1 Antenna, A GND

## Connector DB9
designator J?, comment DB9
CONN D-SUB PLUG 9POS R/A SOLDER; Part Number: DR09S-H-CN; Manufacturer: Auk Contractors; ComponentLink1Description: DataSheet; ComponentLink1URL: https://static.chipdip.ru/lib/009/DOC004009535.pdf; ComponentLink2Description: Chip&Dip; ComponentLink2URL: https://www.chipdip.ru/product/dr09s-h-cn-drb-9fa-dbr-9f; Type: Connector
footprint DB9
pins: 1, 2, 3, 4, 5, 6, 7, 8, 9

## Connector DJK
designator J?, comment DJK
DC 2.5x5.5mm; Part Number: DS-210A (PBT) (NB); Manufacturer: Dragon City Industries; ComponentLink1Description: Chip&Dip; ComponentLink1URL: https://www.chipdip.ru/product/ds-210a-djk-02b; Type: Connector
footprint DJK-02B
pins: 1 VCC (power), 2 GND, 3 GND

## Connector MicroUSB
designator J?, comment MicroUSB
Part Number: 473460001; Manufacturer: Molex; ComponentLink1Description: Chip&Dip; ComponentLink1URL: https://www.chipdip.ru/product/molex-47346-0001; Type: Connector
footprint MicroUSB 47346-0001
pins: 1 VBUS (power), 2 D- (io), 3 D+ (io), 4 ID, 5 GND (power), A Shield (power)

## Connector USB
designator J?, comment USB
Manufacturer: Ningbo connfly electronic; Part Number: DS1098-BN0; ComponentLink1Description: Chip&Dip; ComponentLink1URL: https://www.chipdip.ru/product/usb-asm-ds1098-b; ComponentLink2Description: DataSheet; ComponentLink2URL: https://static.chipdip.ru/lib/249/DOC000249309.pdf; Type: Connector
footprint USB
pins: 1 VBUS (power), 2 D- (io), 3 D+ (io), 4 GND (power), A Shield (power)

## Connector USB 2.0 Type-C
designator J?, comment USB
Manufacturer: Global Connector Technology; Part Number: USB4085-GF-A; ComponentLink1Description: Chip&Dip; ComponentLink1URL: https://www.chipdip.ru/product/usb4085-gf-a; Type: Connector; ComponentLink2Description: DataSheet; ComponentLink2URL: https://www.farnell.com/cad/2648880.pdf
footprint USB Type-C
pins: A Shield (power), A1 GND (power), A4 VBUS (power), A5 CC1, A6 D+ (io), A7 D- (io), A8 SBU1, A9 VBUS (power), A12 GND (power), B1 GND (power), B4 VBUS (power), B5 CC2, B6 D+ (io), B7 D- (io), B8 SBU2, B9 VBUS (power), B12 GND (power)

## Connector USB 3.1 Type-C
designator J?, comment USB
Manufacturer: Pulse Engineering; Part Number: E8124-010-01; ComponentLink1Description: Chip&Dip; ComponentLink1URL: https://www.chipdip.ru/product1/8002225623; Type: Connector
pins: 5 Shield (power), A1 GND (power), A2 TX1+ (out), A3 TX1- (out), A4 VBUS (power), A5 CC1, A6 D+ (io), A7 D- (io), A8 SBU1, A9 VBUS (power), A10 RX2- (in), A11 RX2+ (in), A12 GND (power), B1 GND (power), B2 TX2+ (out), B3 TX2- (out), B4 VBUS (power), B5 CC2, B6 D+ (io), B7 D- (io), B8 SBU2, B9 VBUS (power), B10 RX1- (in), B11 RX1+ (in), B12 GND (power)

## Connector XT30PW-Female
designator J?, comment XT30
Part Number: XT30PW; Manufacturer: Amass; ComponentLink1Description: AliExpress; ComponentLink1URL: https://ru.aliexpress.com/item/4000070113352.html?spm=a2g0o.productlist.0.0.39dd34bfyYuspa&algo_pvid=4d7d83f5-6270-4220-b100-9b5f13b0846d&algo_expid=4d7d83f5-6270-4220-b100-9b5f13b0846d-3&btsid=c67bc929-e3be-4af3-9fd9-25ac13ce4818&ws_ab_test=searchweb0_0,searchweb201602_,searchweb201603_55; Type: Connector
footprint HEADER 2 XT30PW FeMale
pins: 1 GND, 2 VCC, A Shield

## Connector XT30PW-Male
designator J?, comment XT30
Part Number: XT30PW; Manufacturer: Amass; ComponentLink1Description: AliExpress; ComponentLink1URL: https://ru.aliexpress.com/item/4000070113352.html?spm=a2g0o.productlist.0.0.39dd34bfyYuspa&algo_pvid=4d7d83f5-6270-4220-b100-9b5f13b0846d&algo_expid=4d7d83f5-6270-4220-b100-9b5f13b0846d-3&btsid=c67bc929-e3be-4af3-9fd9-25ac13ce4818&ws_ab_test=searchweb0_0,searchweb201602_,searchweb201603_55; Type: Connector
footprint HEADER 2 XT30PW Male
pins: 1 VCC, 2 GND, A Shield

## Crystal 8MHz
designator Y?, comment 8MHz
Crystal. HC-49S (US); Manufacturer: China; Part Number: 8.000MHzHC-49US; Type: Crystal; ComponentLink1Description: Chip&Dip; ComponentLink1URL: https://www.chipdip.ru/product/8mhz-hc-49s
footprint R38 (Crystal)
pins: 1, 2

## Crystal 8MHz [ABM]
designator Y?, comment 8MHz
8.0MHz 10pf 10ppm -10C +60C; Manufacturer: ABRACON; Part Number: ABM3B-8.000MHZ-10-1UT; Type: Crystal; ComponentLink1Description: Mouser; ComponentLink1URL: https://ru.mouser.com/ProductDetail/ABRACON/ABM3B-8000MHZ-10-1UT?qs=sGAEpiMZZMsBj6bBr9Q9aQYUWCbsL2Wc65je5Ut7byg%3D; ComponentLink2Description: DataSheet; ComponentLink2URL: https://ru.mouser.com/datasheet/2/3/abm3b-39910.pdf
footprint Crystal ABM
pins: 1, 2, GND

## Crystal 8MHz SMD
designator Y?, comment 8MHz
Crystal. HC-49SM (US); Manufacturer: China; Part Number: 8.000MHzHC-49SM; Type: Crystal; ComponentLink1Description: Chip&Dip; ComponentLink1URL: https://www.chipdip.ru/product/8mhz-hc-49sm
footprint hc-49sm
pins: 1, 2

## Crystal 16MHz
designator Y?, comment 16MHz
Crystal. HC-49S (US); Manufacturer: China; Part Number: 16.000MHzHC-49US; Type: Crystal; ComponentLink1Description: Chip&Dip; ComponentLink1URL: https://www.chipdip.ru/product/16mhz-hc-49s
footprint R38 (Crystal)
pins: 1, 2

## Crystal 26MHz [ABM]
designator Y?, comment 26MHz
26.0MHz 10pf 10ppm -10C +60C; Manufacturer: ABRACON; Part Number: ABM3B-26.000MHZ-10-1-U-T; Type: Crystal; ComponentLink1Description: Mouser; ComponentLink1URL: https://ru.mouser.com/ProductDetail/ABRACON/ABM3B-26000MHZ-10-1-U-T?qs=sGAEpiMZZMsBj6bBr9Q9aYIb7x83P10s%2FVqDaCBbZQI%3D; ComponentLink2Description: DataSheet; ComponentLink2URL: https://ru.mouser.com/datasheet/2/3/abm3b-1774998.pdf
footprint Crystal ABM
pins: 1, 2, GND

## Crystal 40MHz [ABM]
designator Y?, comment 40MHz
40.0MHz 10pf 10ppm -10C +60C; Manufacturer: ABRACON; Part Number: ABM3B-40.000MHZ-10-1-U-T; Type: Crystal; ComponentLink1Description: Mouser; ComponentLink1URL: https://ru.mouser.com/ProductDetail/ABRACON/ABM3B-40000MHZ-10-1-U-T?qs=sGAEpiMZZMsBj6bBr9Q9acVJ3l36SOAPS6GFViLdkvE%3D; ComponentLink2Description: DataSheet; ComponentLink2URL: https://ru.mouser.com/datasheet/2/3/abm3b-1774998.pdf
footprint Crystal ABM
pins: 1, 2, GND

## Current Sensor 5A
designator U?, comment Current Sens
Hall current sensor, 5A, VIN upto 8V; Manufacturer: Allegro MicroSystems; Part Number: ACS712ELCTR-05B-T; Type: IC; ComponentLink1Description: ChipDip; ComponentLink1URL: https://www.chipdip.ru/product/acs712elctr-05b-t; ComponentLink2Description: Datasheet; ComponentLink2URL: https://static.chipdip.ru/lib/242/DOC000242949.pdf
footprint SOIC-8
pins: 1 IP+, 2 IP+, 3 IP-, 4 IP-, 5 GND, 6 FILTER, 7 VOUT, 8 VCC

## Current Sensor 20A
designator U?, comment Current Sens
Hall current sensor, 20A, VIN upto 8V; Manufacturer: Allegro MicroSystems; Part Number: ACS712ELCTR-20A-T; Type: IC; ComponentLink1Description: Chip&Dip; ComponentLink1URL: https://www.chipdip.ru/product/acs712elctr-20a-t; ComponentLink2Description: Datasheet; ComponentLink2URL: https://static.chipdip.ru/lib/242/DOC000242949.pdf
footprint SOIC-8
pins: 1 IP+, 2 IP+, 3 IP-, 4 IP-, 5 GND, 6 FILTER, 7 VOUT, 8 VCC

## Current Sensor 50A
designator U?, comment Current Sens
Hall current sensor, 50A, VIN upto 8V; Manufacturer: Allegro MicroSystems; Part Number: ACS758LCB-050U-PFF-T; ComponentLink1Description: Chip&Dip; ComponentLink1URL: https://www.chipdip.ru/product0/8001922402; ComponentLink2Description: Datasheet; ComponentLink2URL: https://static.chipdip.ru/lib/787/DOC005787708.pdf; Type: IC
footprint CB-5 (ACS758SCB)
pins: 1 VCC, 2 GND, 3 VOUT, 4 IP-, 5 IP+

## Current Sensor [HTFS]
designator U?, comment Current Sens
The HTFS 200-P is a Current Transducer for the electronic measurement of DC, AC, pulsed, mixed with a galvanic isolation between the primary circuit (high power) and the secondary circuit (electronic circuit). Hall effect measuring principle.; Manufacturer: LEM; Part Number: HTFS 200-P/SP2; Type: IC; ComponentLink1Description: Chip&Dip; ComponentLink1URL: https://www.chipdip.ru/product/htfs-200-p-sp2-current-transducer; ComponentLink2Description: DataSheet; ComponentLink2URL: http://www.farnell.com/datasheets/30908.pdf
footprint HTFS
pins: 1 +5V, 2 GND, 3 Output, 4 Vref (I/O), A Sh

## DC/DC
designator U?
DC/DC 5V with MP2307 Chip
footprint DC-DC
pins: 1 IN-, 2 IN+, 3 OUT-, 4 OUT+

## DC/DC Controller [L5973]
designator U?, comment DC/DC
The L5973AD is a step down monolithic power switching regulator with a switch current limit of 2 A so it is able to deliver more than 1.5 A DC current to the load depending on the application conditions; Manufacturer: STMicroelectronics; Part Number: L5973ADTR; ComponentLink1Description: Chip&Dip; ComponentLink1URL: https://www.chipdip.ru/product/l5973ad; ComponentLink2Description: DataSheet; ComponentLink2URL: https://static.chipdip.ru/lib/583/DOC001583165.pdf; Type: IC
footprint HSOP-8
pins: 1 OUT (power) "Input Supply Voltage", 2 Sync, 3 INH (power), 4 Comp, 5 FB, 6 Vref, 7 GND (power), 8 VCC (power), A EP (power) "Signal Ground"

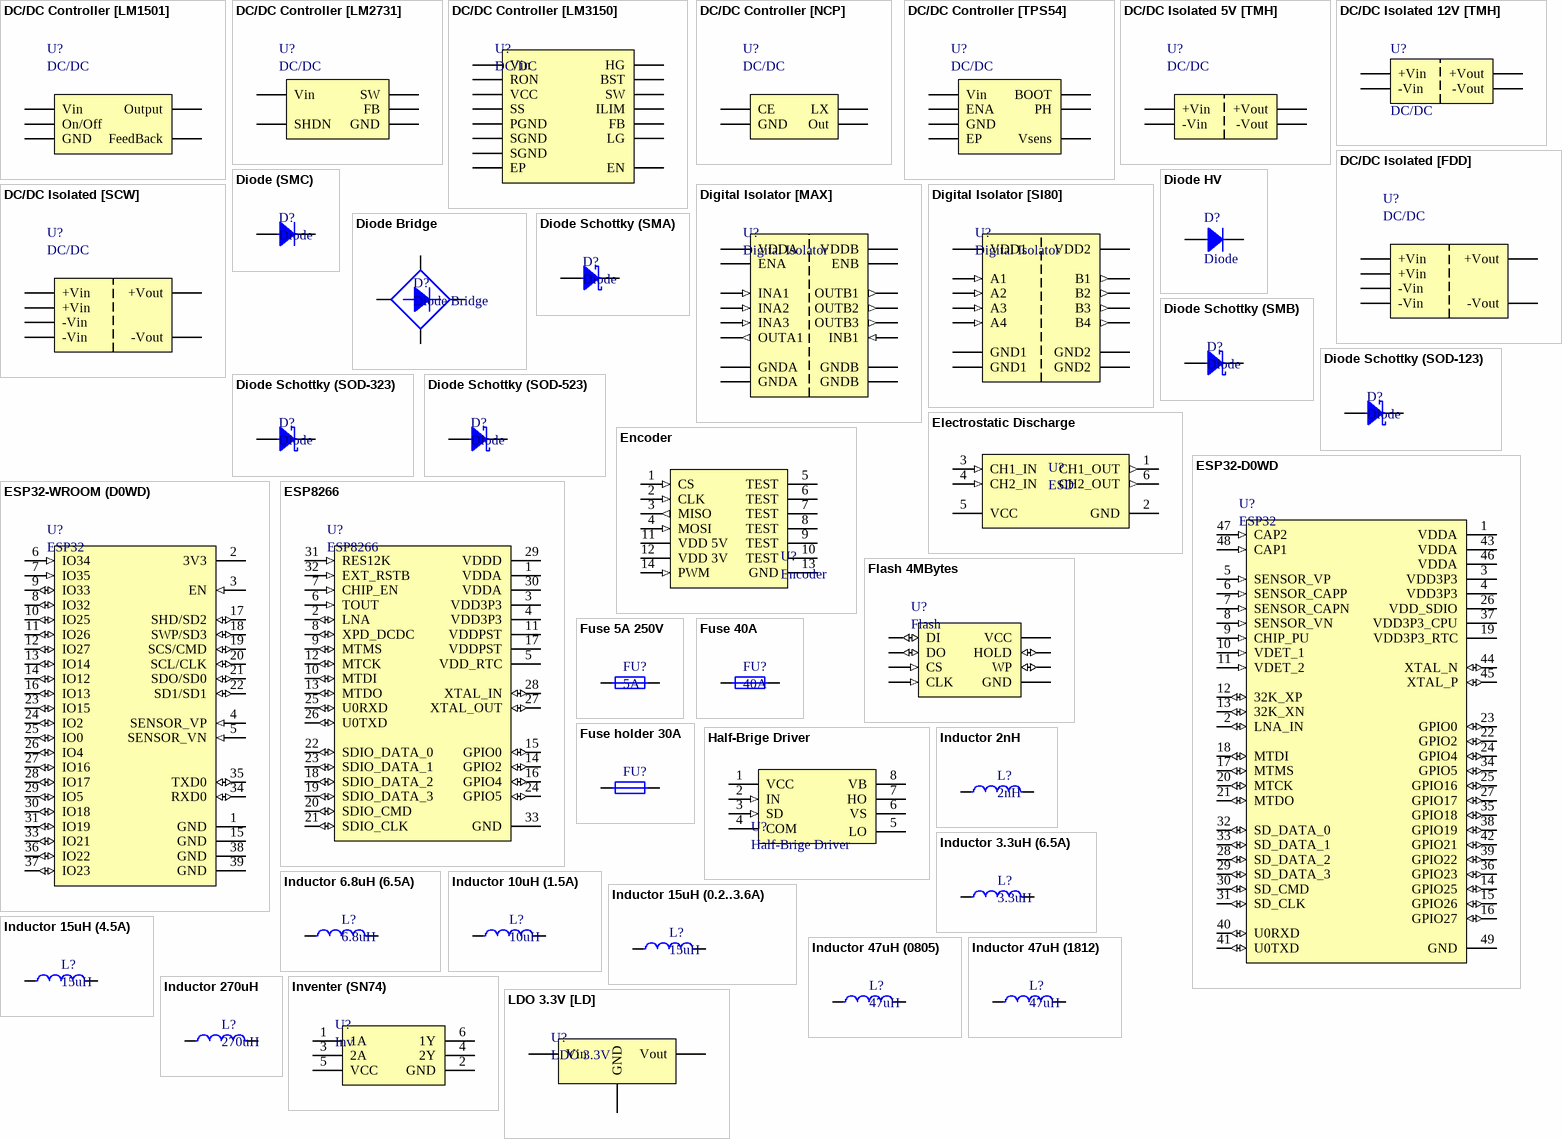
[diagram p3: symbols DC/DC Controller [LM1501] to LDO 3.3V [LD]]

## DC/DC Controller [LM1501]
designator U?, comment DC/DC
The LM1501Aseries of regulators are monolithic integrated circuits that provideall the active functions for astep-down  switching  regulator,  capable  ofdriving  a  5A  load  with  excellent  line  and  load  regulation.; Manufacturer: TAEJIN TECHNOLOGY; Part Number: LM1501AGR-ADJ; ComponentLink1Description: Chip&Dip; ComponentLink1URL: https://www.chipdip.ru/product/lm1501agr-adj; ComponentLink2Description: DataSheet; ComponentLink2URL: https://static.chipdip.ru/lib/138/DOC004138836.pdf; Type: IC
footprint TO-263-5L
pins: 1 Vin (power) "Input Supply Voltage", 2 Output (power), 3 GND (power) "Power Ground", 4 FeedBack, 5 On/Off

## DC/DC Controller [LM2731]
designator U?, comment DC/DC
The  LM2731  switching  regulators  are  current-mode  boostconverters  operating  at  fixed  frequencies  of  1.6  MHz  (“X”option) and 600 kHz (“Y” option).; Manufacturer: Texas Instruments; Part Number: LM2731YMF/NOPB; ComponentLink1Description: Chip&Dip; ComponentLink1URL: https://www.chipdip.ru/product/lm2731ymf-nopb; ComponentLink2Description: DataSheet; ComponentLink2URL: https://static.chipdip.ru/lib/491/DOC000491907.pdf; Type: IC
footprint SOT-23-5
pins: 1 SW, 2 GND (power), 3 FB, 4 SHDN (power), 5 Vin (power) "Input Supply Voltage"

## DC/DC Controller [LM3150]
designator U?, comment DC/DC
A SIMPLE SWITCHER® synchronous Step-down Controller capable of providing up to 12A of output current in a typical application. Operating with an input voltage range of 6V to 42V, the LM3150 features an adjustable output voltage down to 0.6V; Manufacturer: Texas Instruments; Part Number: LM3150MH/NOPB; ComponentLink1Description: Chip&Dip; ComponentLink1URL: https://www.chipdip.ru/product/lm3150mh-nopb; ComponentLink2Description: DataSheet; ComponentLink2URL: https://static.chipdip.ru/lib/029/DOC001029258.pdf; Type: IC
footprint HTSSOP-14
pins: 1 VCC (power) "Supply Voltage for FET Drivers", 2 Vin "Input Supply Voltage", 3 EN "Enable", 4 FB "Feedback", 5 SGND (power) "Signal Ground", 6 SS (oc) "Soft Start", 7 RON "On-Time Control", 8 ILIM "Current Limit", 9 SGND (power) "Signal Ground", 10 SW "Swich Node", 11 HG "High-Side Gate Drive", 12 BST (power) "Connection for Bootstrap Capicator", 13 LG "Low-Side Gate Drive", 14 PGND (power) "Power Ground", A EP (power) "Signal Ground"

## DC/DC Controller [NCP]
designator U?, comment DC/DC
The NCP1402 series are monolithic micropower step−up DC to DCconverter that are specially designed for powering portable equipmentfrom  one  or  two  cell  battery  packs.; Manufacturer: ON Semiconductor; Part Number: NCP1402SN50T1G; ComponentLink1Description: Chip&Dip; ComponentLink1URL: https://www.chipdip.ru/product/ncp1402sn50t1g; ComponentLink2Description: DataSheet; ComponentLink2URL: https://static.chipdip.ru/lib/080/DOC001080266.pdf; Type: IC
footprint SOT-23-5
pins: 1 CE (power) "Input Supply Voltage", 2 Out (power), 4 GND (power), 5 LX

## DC/DC Controller [TPS54]
designator U?, comment DC/DC
The TPS5450 is  a  high-output-current PWM converter that integrates a low-resistance, high-side N-channel MOSFET; Manufacturer: Texas Instruments; Part Number: TPS5450DDAR; ComponentLink1Description: Chip&Dip; ComponentLink1URL: https://www.chipdip.ru/product/tps5450ddar-2; ComponentLink2Description: DataSheet; ComponentLink2URL: https://static.chipdip.ru/lib/787/DOC004787015.pdf; Type: IC
footprint HSOP-8
pins: 1 BOOT (power), 4 Vsens, 5 ENA, 6 GND (power), 7 Vin (power), 8 PH (power) "Input Supply Voltage", A EP (power) "Signal Ground"

## DC/DC Isolated 5V [TMH]
designator U?, comment DC/DC
The TMH series are ultra miniature, isolated 2 Watt DC/DC-converters in a Single-in-Line  package  (SIP); Manufacturer: Traco Power; Part Number: TMH1205S; ComponentLink1Description: Chip&Dip; ComponentLink1URL: https://www.chipdip.ru/product/tmh-1205s; ComponentLink2Description: DataSheet; ComponentLink2URL: https://static.chipdip.ru/lib/005/DOC001005854.pdf; Type: IC
footprint SIP7
pins: 1 +Vin (power) "Input Supply Voltage", 2 -Vin (power) "Power Ground", 4 -Vout (power), 6 +Vout (power)

## DC/DC Isolated 12V [TMH]
designator U?, comment DC/DC
The TMH series are ultra miniature, isolated 2 Watt DC/DC-converters in a Single-in-Line  package  (SIP); Manufacturer: Traco Power; Part Number: TMH2412S; Input Voltage: 24; Output Voltage: 12; ComponentLink1Description: Chip&Dip; ComponentLink1URL: https://www.chipdip.ru/product/tmv2412s; ComponentLink2Description: DataSheet; ComponentLink2URL: https://static.chipdip.ru/lib/005/DOC001005854.pdf; Type: IC
footprint SIP7
pins: 1 +Vin (power) "Input Supply Voltage", 2 -Vin (power) "Power Ground", 4 -Vout (power), 6 +Vout (power)

## DC/DC Isolated [FDD]
designator U?, comment DC/DC
DC - DC CONVERTER2 ~ 3W  SINGLE OUTPUT; Manufacturer: Chinfa Electronics; Part Number: FDD03-05S4; ComponentLink1Description: Chip&Dip; ComponentLink1URL: https://www.chipdip.ru/product/fdd03-05s4; ComponentLink2Description: DataSheet; ComponentLink2URL: https://static.chipdip.ru/lib/552/DOC000552732.pdf; Type: IC
footprint DIP24 DC-DC FDD03
pins: 2 -Vin (power) "Power Ground", 3 -Vin (power) "Power Ground", 14 +Vout (power), 16 -Vout (power), 22 +Vin (power) "Input Supply Voltage", 23 +Vin (power) "Input Supply Voltage"

## DC/DC Isolated [SCW]
designator U?, comment DC/DC
1000VDC I/O isolation, Protections: Short circuit / Overload, 100% burn-in test; Manufacturer: MEAN WELL; Part Number: SCW03A-05; ComponentLink1Description: Chip&Dip; ComponentLink1URL: https://www.chipdip.ru/product/scw03a-05; ComponentLink2Description: DataSheet; ComponentLink2URL: https://static.chipdip.ru/lib/149/DOC003149337.pdf; Type: IC
footprint DIP24 DC-DC SCW
pins: 2 -Vin (power) "Power Ground", 3 -Vin (power) "Power Ground", 14 +Vout (power), 16 -Vout (power), 22 +Vin (power) "Input Supply Voltage", 23 +Vin (power) "Input Supply Voltage"

## Digital Isolator [MAX]
designator U?, comment Digital Isolator
4-channel,  2.75kVRMS  and  3.75kVRMS  digital  isolator; Manufacturer: Maxim Semiconductor; Part Number: MAX14931EASE+; ComponentLink1Description: Chip&Dip; ComponentLink1URL: https://www.chipdip.ru/product/max14931ease; ComponentLink2Description: DataSheet; ComponentLink2URL: https://datasheets.maximintegrated.com/en/ds/MAX14130-MAX14932.pdf; Type: IC
footprint SOIC-16
pins: 1 VDDA (power), 2 GNDA (power), 3 INA1 (in), 4 INA2 (in), 5 INA3 (in), 6 OUTA1 (out), 7 ENA, 8 GNDA (power), 9 GNDB (power), 10 ENB, 11 INB1 (in), 12 OUTB3 (out), 13 OUTB2 (out), 14 OUTB1 (out), 15 GNDB (power), 16 VDDB (power)

## Digital Isolator [SI80]
designator U?, comment Digital Isolator
Silicon  Lab's  family  of  low-power  digital  isolators  are  CMOS  devicesoffering substantial data rate, propagation delay, power, size, reliability,and external BOM advantages over legacy isolation technologies.; Manufacturer: Silicon Laboratories; Part Number: SI8045AA-B-IU; ComponentLink1Description: Chip&Dip; ComponentLink1URL: https://www.chipdip.ru/product/si8045aa-b-iu; ComponentLink2Description: DataSheet; ComponentLink2URL: https://static6.arrow.com/aropdfconversion/a78c70b03c1ab78fff2102d98b369cf2ccbf4a39/si80xx-1kv.pdf; Type: IC
footprint QSOP-16
pins: 1 VDD1 (power), 2 GND1 (power), 3 A1 (in), 4 A2 (in), 5 A3 (in), 6 A4 (in), 8 GND1 (power), 9 GND2 (power), 11 B4 (out), 12 B3 (out), 13 B2 (out), 14 B1 (out), 15 GND2 (power), 16 VDD2 (power)

## Diode (SMC)
designator D?, comment Diode
3A 50V, (DO-214AB/SMC); Part Number: GS3A; Manufacturer: Yangzhou Yangjie Electronic Technology; Type: Diode; ComponentLink1Description: DataSheet; ComponentLink1URL: https://static.chipdip.ru/lib/152/DOC001152906.pdf; ComponentLink2Description: Chip&Dip; ComponentLink2URL: https://www.chipdip.ru/product/gs3a
footprint DO-214AB(SMC)
pins: 1, 2

## Diode Bridge
designator D?
4A 400V; Part Number: GBL04-E3/51; Manufacturer: Vishay; Type: Diode; ComponentLink1Description: DataSheet; ComponentLink1URL: https://static.chipdip.ru/lib/151/DOC000151040.pdf; ComponentLink2Description: Chip&Dip; ComponentLink2URL: https://www.chipdip.ru/product/gbl04
footprint Diode Bridge
pins: 1 "+", 2 "~", 3 "~", 4 "-"